# Altium schematic symbol library EB-500.SchLib: 1 symbol
Pins are listed as number, name and electrical type; pins without a type are passive.

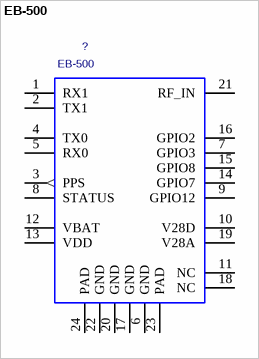
[diagram p0: symbol EB-500]

## EB-500
designator ?
Value: *
footprint EB-500
pins: 1 RX1, 2 TX1, 3 PPS (out), 4 TX0, 5 RX0, 6 GND (power), 7 GPIO3, 8 STATUS, 9 GPIO12, 10 V28D, 11 NC, 12 VBAT (power), 13 VDD (power), 14 GPIO7, 15 GPIO8, 16 GPIO2, 17 GND (power), 18 NC, 19 V28A, 20 GND (power), 21 RF_IN, 22 GND (power), 23 PAD (power), 24 PAD (power)